# Altium integrated library 7400 Logic.IntLib: 10 symbols
Pins are listed as number, name and electrical type; pins without a type are passive.

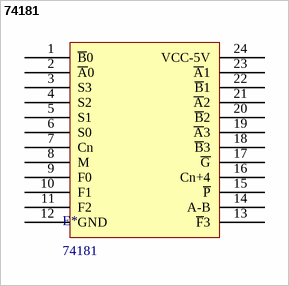
[diagram p0: symbol 74181]

## 74181
designator E*
Supplier 1: Rochester Electronics; Supplier Part Number 1: 74F181SPC
footprint DIP24
pins: 1 ~{B}0, 2 ~{A}0, 3 S3, 4 S2, 5 S1, 6 S0, 7 Cn, 8 M, 9 F0, 10 F1, 11 F2, 12 GND, 13 ~{F}3, 14 A-B, 15 ~{P}, 16 Cn+4, 17 ~{G}, 18 ~{B}3, 19 ~{A}3, 20 ~{B}2, 21 ~{A}2, 22 ~{B}1, 23 ~{A}1, 24 VCC-5V


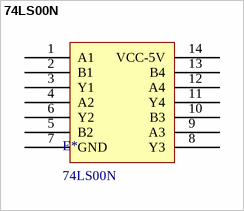
[diagram p1: symbol 74LS00N]

## 74LS00N
designator E*
Supplier 1: Mouser; Supplier Part Number 1: 595-SN74LS00NE4
footprint DIP14
pins: 1 A1, 2 B1, 3 Y1, 4 A2, 5 B2, 6 Y2, 7 GND, 8 Y3, 9 A3, 10 B3, 11 Y4, 12 A4, 13 B4, 14 VCC-5V


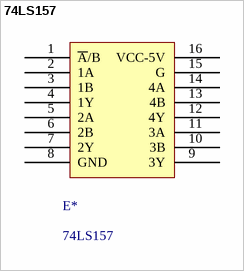
[diagram p2: symbol 74LS157]

## 74LS157
designator E*
Supplier 1: Mouser; Supplier Part Number 1: 595-CD74HCT157E
footprint DIP16
pins: 1 ~{A}/B, 2 1A, 3 1B, 4 1Y, 5 2A, 6 2B, 7 2Y, 8 GND, 9 3Y, 10 3B, 11 3A, 12 4Y, 13 4B, 14 4A, 15 G, 16 VCC-5V


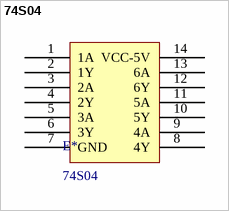
[diagram p3: symbol 74S04]

## 74S04
designator E*
Supplier 1: Mouser; Supplier Part Number 1: 595-SN74S04N
footprint DIP14
pins: 1 1A, 2 1Y, 3 2A, 4 2Y, 5 3A, 6 3Y, 7 GND, 8 4Y, 9 4A, 10 5Y, 11 5A, 12 6Y, 13 6A, 14 VCC-5V


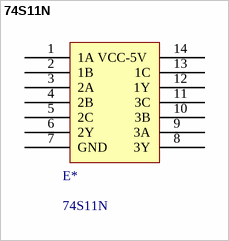
[diagram p4: symbol 74S11N]

## 74S11N
designator E*
Supplier 1: Rochester Electronics; Supplier Part Number 1: SN74S11N
footprint DIP14
pins: 1 1A, 2 1B, 3 2A, 4 2B, 5 2C, 6 2Y, 7 GND, 8 3Y, 9 3A, 10 3B, 11 3C, 12 1Y, 13 1C, 14 VCC-5V 


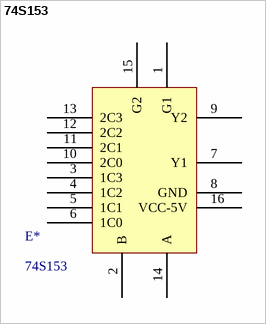
[diagram p5: symbol 74S153]

## 74S153
designator E*
Supplier 1: Rochester Electronics; Supplier Part Number 1: DM74S153N
footprint DIP16
pins: 1 G1, 2 B, 3 1C3, 4 1C2, 5 1C1, 6 1C0, 7 Y1, 8 GND, 9 Y2, 10 2C0, 11 2C1, 12 2C2, 13 2C3, 14 A, 15 G2, 16 VCC-5V


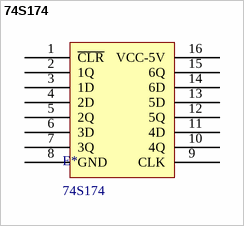
[diagram p6: symbol 74S174]

## 74S174
designator E*
Supplier 1: Rochester Electronics; Supplier Part Number 1: SN74S174N
footprint DIP16-300
pins: 1 ~{CLR}, 2 1Q, 3 1D, 4 2D, 5 2Q, 6 3D, 7 3Q, 8 GND, 9 CLK, 10 4Q, 11 4D, 12 5Q, 13 5D, 14 6D, 15 6Q, 16 VCC-5V


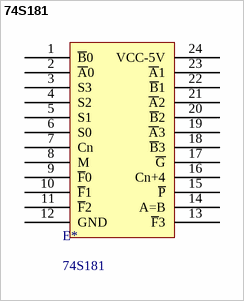
[diagram p7: symbol 74S181]

## 74S181
designator E*
Supplier 1: Rochester Electronics; Supplier Part Number 1: SN74S181N
footprint DIP24
pins: 1 ~{B}0, 2 ~{A}0, 3 S3, 4 S2, 5 S1, 6 S0, 7 Cn, 8 M, 9 ~{F}0, 10 ~{F}1, 11 ~{F}2, 12 GND, 13 ~{F}3, 14 A=B, 15 ~{P}, 16 Cn+4, 17 ~{G}, 18 ~{B}3, 19 ~{A}3, 20 ~{B}2, 21 ~{A}2, 22 ~{B}1, 23 ~{A}1, 24 VCC-5V


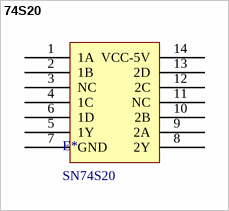
[diagram p8: symbol 74S20]

## 74S20
designator E*, comment SN74S20
Supplier 1: Mouser; Supplier Part Number 1: 595-SN74S20N
footprint DIP14
pins: 1 1A, 2 1B, 3 NC, 4 1C, 5 1Y, 6 1D, 7 GND, 8 2Y, 9 2A, 10 2B, 11 NC, 12 2C, 13 2D, 14 VCC-5V


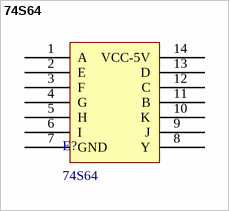
[diagram p9: symbol 74S64]

## 74S64
designator E?
footprint DIP14
pins: 1 A, 2 E, 3 F, 4 G, 5 H, 6 I, 7 GND, 8 Y, 9 J, 10 K, 11 B, 12 C, 13 D, 14 VCC-5V